# EAGLE library part BMI088 (library Bits_library_eagle)
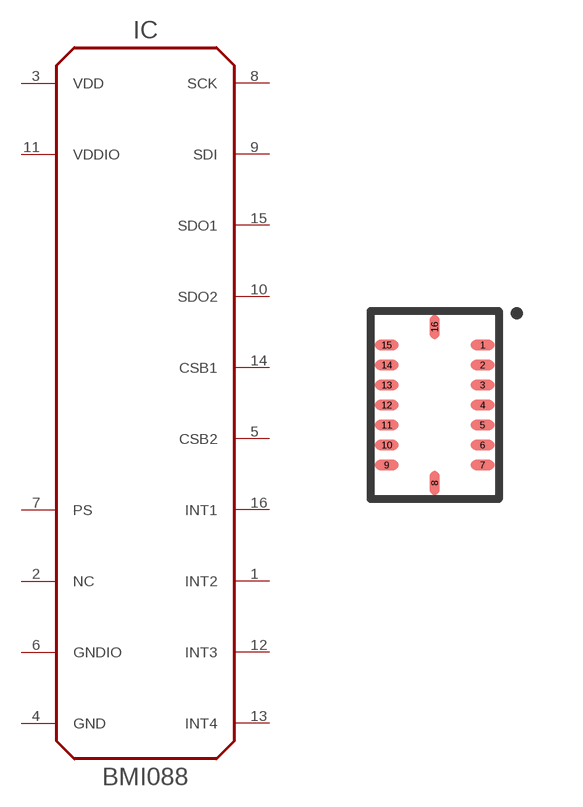
[diagram p37: symbol with the pads of LGA16-L; footprint LGA16-L]

Designator prefix IC

## BMI088LGA  [LGA16-L]
1  INT2
2  NC  nc
3  VDD  pwr
4  GND  pwr
5  CSB2
6  GNDIO  pwr
7  PS
8  SCK
9  SDI
10  SDO2
11  VDDIO  pwr
12  INT3
13  INT4
14  CSB1
15  SDO1
16  INT1

## Footprint LGA16-L (pad centres in mm)
smd 0.6 x 0.25: 1 1.2,1.5; 2 1.2,1; 3 1.2,0.5; 4 1.2,0; 5 1.2,-0.5; 6 1.2,-1; 7 1.2,-1.5; 9 -1.2,-1.5; 10 -1.2,-1; 11 -1.2,-0.5; 12 -1.2,0; 13 -1.2,0.5; 14 -1.2,1; 15 -1.2,1.5
smd 0.25 x 0.6: 8 0,-1.95; 16 0,1.95